# Altium schematic symbol library Accel.SchLib: 1 symbol
Pins are listed as number, name and electrical type; pins without a type are passive.

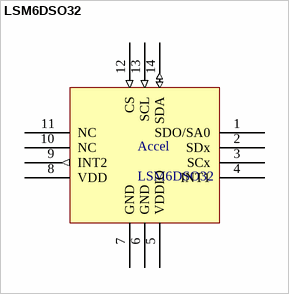
[diagram p0: symbol LSM6DSO32]

## LSM6DSO32
designator Accel
Accelerometer and 3D Gyroscope 3D Always-On 1.71V to 3.6V 0.55mA 14-Pin LGA T/R; Manufacturer: STMicroelectronics; Manufacturer Part Number: LSM6DSO32TR; Body Material: Plastic; Operating Supply Current: 550µA; Operating Supply Voltage: 1.8V; Output Configuration: Digital; Supplier: DigiKey; Supplier Part Number: 497-LSM6DSO32CT-ND; RoHS: Compliant; Category: Inertial Measurement Units (IMUs); Stock: 5000; Pricing: 1=3,64, 5=3,258, 10=3,115, 25=2,9448, 50=2,8282, 100=2,7213, 500=2,5064, 1000=2,45778 (USD); China RoHS: Compliant; Height: 860µm; Length: 3mm; Lifecycle Status: Production; Max Operating Temperature: 85°C; Max Supply Voltage: 3.6V; Min Operating Temperature: -40°C; Min Supply Voltage: 1.71V; Mounting Technology: Surface Mount; Number of Terminals: 14; Output Type: Digital; REACH SVHC: Yes; ComponentLink1URL: https://datasheet.octopart.com:443/LSM6DSO32TR-STMicroelectronics-datasheet-152560011.pdf?src-supplier=Upverter; ComponentLink1Description: https://datasheet.octopart.com:443/LSM6DSO32TR-STMicroelectronics-datasheet-152560011.pdf?src-supplier=Upverter; Supplier 1: DigiKey; Supplier Part Number 1: 497-LSM6DSO32CT-ND
pins: 1 SDO/SA0, 2 SDx, 3 SCx, 4 INT1, 5 VDDIO (power), 6 GND (power), 7 GND (power), 8 VDD (power), 9 INT2 (out), 10 NC, 11 NC, 12 CS (in), 13 SCL (in), 14 SDA (io)